# EAGLE library part ICSP_HEADER (library tritiled)
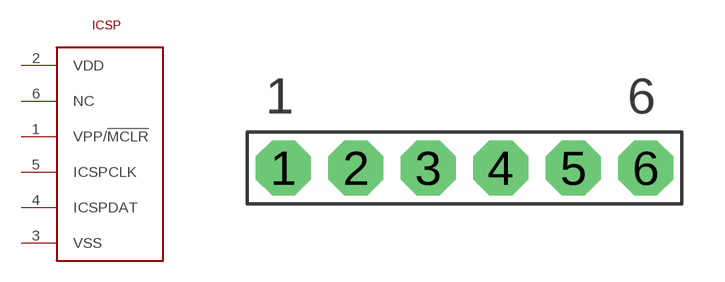
[diagram p1: symbol with the pads of ICSP_HEADER; footprint ICSP_HEADER]

Designator prefix -

## ICSP_HEADER  [ICSP_HEADER]
1  VPP/!MCLR!
2  VDD
3  VSS
4  ICSPDAT
5  ICSPCLK
6  NC

## Footprint ICSP_HEADER (pad centres in mm)
drill 1 pad 1.93 octagon: 1 -6.35,0; 2 -3.81,0; 3 -1.27,0; 4 1.27,0; 5 3.81,0; 6 6.35,0